# Altium integrated library Gamebuino.IntLib: 22 symbols
Pins are listed as number, name and electrical type; pins without a type are passive.

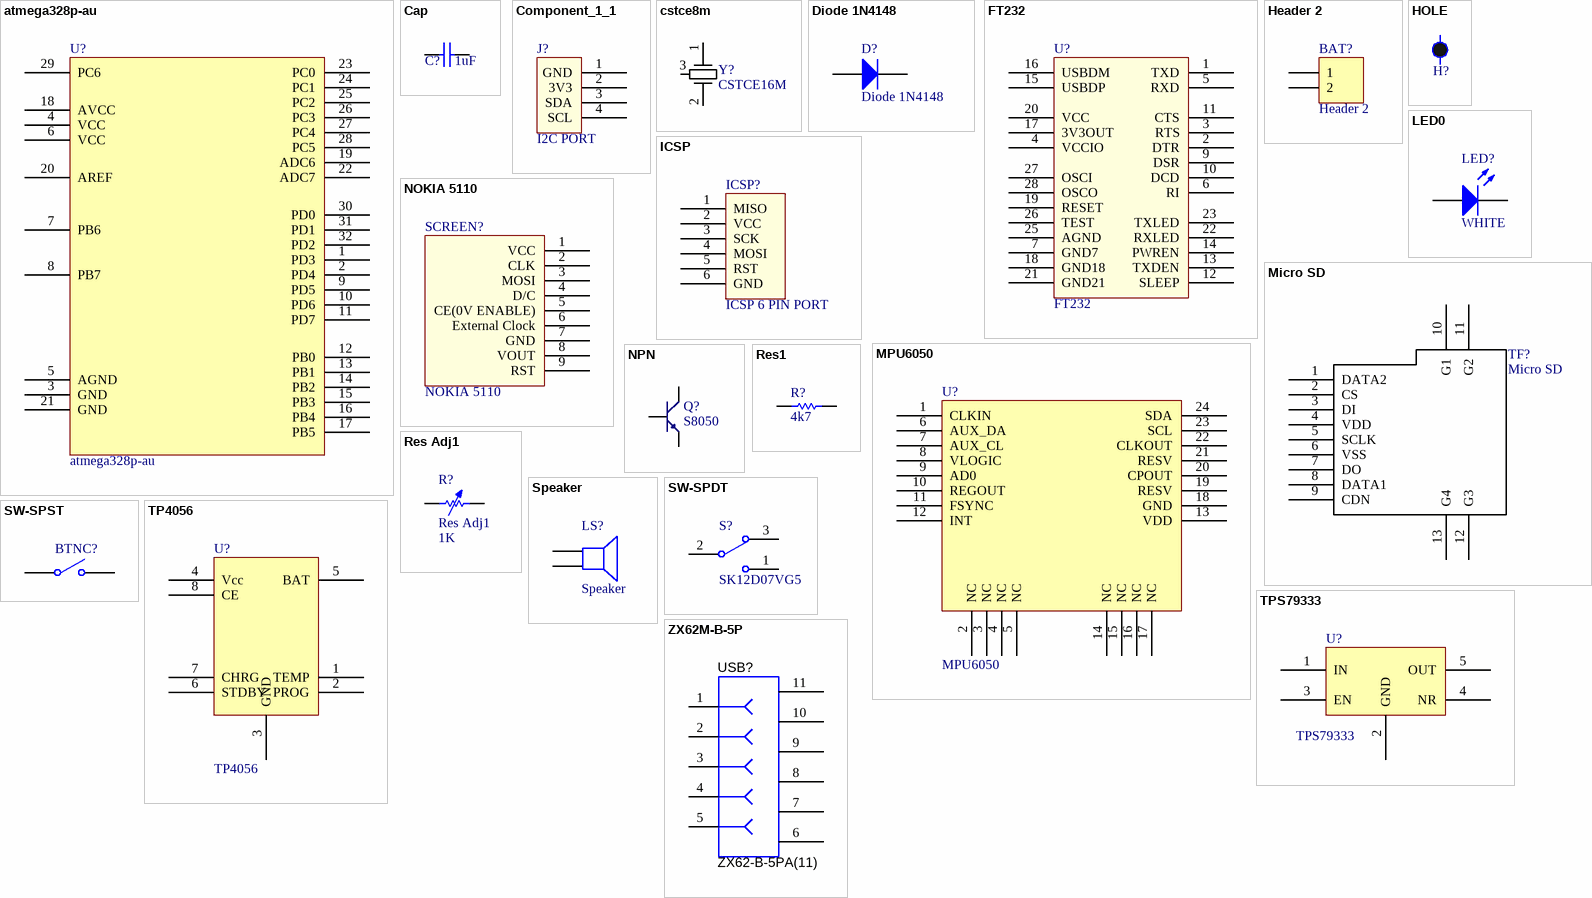
[diagram p0: symbols atmega328p-au to ZX62M-B-5P]

## atmega328p-au
designator U?
footprint TQFP-32N-1
pins: 1 PD3, 2 PD4, 3 GND, 4 VCC, 5 AGND, 6 VCC, 7 PB6, 8 PB7, 9 PD5, 10 PD6, 11 PD7, 12 PB0, 13 PB1, 14 PB2, 15 PB3, 16 PB4, 17 PB5, 18 AVCC, 19 ADC6, 20 AREF, 21 GND, 22 ADC7, 23 PC0, 24 PC1, 25 PC2, 26 PC3, 27 PC4, 28 PC5, 29 PC6, 30 PD0, 31 PD1, 32 PD2

## Cap
designator C?  value 1uF  (hidden comment: Cap)
Capacitor; Published: 8-Jun-2000; LatestRevisionDate: 17-Jul-2002; LatestRevisionNote: Re-released for DXP Platform.; PackageReference: RAD-0.3; Publisher: Altium Limited; PackageDescription: Radial Cap, Thru-Hole; 2 Leads; 0.3 in Pin Spacing
footprint 6-0805_N (Chip Resistor, Body 2.0x1.2mm, IPC Medium Density)
simulation model CAP (Capacitor)
signal-integrity model Cap
pins: 1, 2

## Component_1_1
designator J?, comment I2C PORT
footprint CONN4_/wTestPoint
pins: 1 GND, 2 3V3, 3 SDA, 4 SCL

## cstce8m
designator Y?, comment CSTCE16M
footprint cstce8m
pins: 1, 2, 3

## Diode 1N4148
designator D?
High Conductance Fast Diode; Published: 8-Jun-2000; LatestRevisionDate: 17-Jul-2002; LatestRevisionNote: Re-released for DXP Platform.; DatasheetVersion: 1997; PackageReference: DO-35; Publisher: Altium Limited; PackageDescription: Diode, Axial; Body 3.8 x 1.9 mm (LxDia. max), Lead Dia. 0.53 mm (max); Code_JEDEC: DO-204-AH; ComponentLink1Description: Manufacturer Link; ComponentLink1URL: http://www.fairchildsemi.com/; ComponentLink2Description: Datasheet; ComponentLink2URL: http://www.fairchildsemi.com/ds/1N%2F1N4148.pdf
footprint 12Z-2010 (Chip Resistor, Body 5.0x2.5mm, IPC High Density)
simulation model 1N4148 (DIODE)
signal-integrity model 1N4148
pins: 1 A, 2 K

## FT232
designator U?
footprint LC-SSOP-28_208mil
pins: 1 TXD, 2 DTR, 3 RTS, 4 VCCIO, 5 RXD, 6 RI, 7 GND7, 9 DSR, 10 DCD, 11 CTS, 12 SLEEP, 13 TXDEN, 14 PWREN, 15 USBDP, 16 USBDM, 17 3V3OUT, 18 GND18, 19 RESET, 20 VCC, 21 GND21, 22 RXLED, 23 TXLED, 25 AGND, 26 TEST, 27 OSCI, 28 OSCO

## Header 2
designator BAT?
Header, 2-Pin; LatestRevisionDate: 17-Jul-2002; LatestRevisionNote: Re-released for DXP Platform.; Publisher: Altium Limited
footprint BAT
signal-integrity model Connector
pins: 1, 2

## HOLE
designator H?  (value not drawn)
footprint HOLE_2.0
footprint HOLE_2.5
footprint HOLE_3.0
footprint HOLE_3.5
footprint HOLE_4.0
footprint HOLE_150mil

## ICSP
designator ICSP?, comment ICSP 6 PIN PORT
footprint CONN6-1mm
pins: 1 MISO, 2 VCC, 3 SCK, 4 MOSI, 5 RST, 6 GND

## LED0
designator LED?, comment WHITE
Typical INFRARED GaAs LED; Published: 8-Jun-2000; LatestRevisionDate: 08-Jul-2005; LatestRevisionNote: Mech Layer 1 removed.; PackageReference: LED-0; Publisher: Altium Limited; PackageDescription: LED; 2 Leads
footprint 6-0805_N (Chip Resistor, Body 2.0x1.2mm, IPC Medium Density)
simulation model LED0 (Diode)
pins: 1 A, 2 K

## Micro SD
designator TF?
footprint tf
pins: 1 DATA2, 2 CS, 3 DI, 4 VDD, 5 SCLK, 6 VSS, 7 DO, 8 DATA1, 9 CDN, 10 G1, 11 G2, 12 G3, 13 G4

## MPU6050
designator U?
footprint QFN-24A
pins: 1 CLKIN, 2 NC, 3 NC, 4 NC, 5 NC, 6 AUX_DA, 7 AUX_CL, 8 VLOGIC, 9 AD0, 10 REGOUT, 11 FSYNC, 12 INT, 13 VDD, 14 NC, 15 NC, 16 NC, 17 NC, 18 GND, 19 RESV, 20 CPOUT, 21 RESV, 22 CLKOUT, 23 SCL, 24 SDA

## NOKIA 5110
designator SCREEN?
footprint 5110_bare
pins: 1 VCC, 2 CLK, 3 MOSI, 4 D/C, 5 CE(0V ENABLE), 6 External Clock, 7 GND, 8 VOUT, 9 RST

## NPN
designator Q?, comment S8050
8050/BCW846/BCW847
footprint SOT-23R
footprint NPN
pins: 1 E, 2 B, 3 C

## Res1
designator R?  value 4k7  (hidden comment: Res1)
Resistor; Published: 8-Jun-2000; LatestRevisionDate: 17-Jul-2002; LatestRevisionNote: Re-released for DXP Platform.; PackageReference: AXIAL-0.3; Publisher: Altium Limited; PackageDescription: Axial Device, Thru-Hole; 2 Leads; 0.3 in Pin Spacing
footprint 6-0805_N (Chip Resistor, Body 2.0x1.2mm, IPC Medium Density)
simulation model RESISTOR (Resistor)
signal-integrity model Res
pins: 1, 2

## Res Adj1
designator R?  value 1K
Variable Resistor; Set Position: 0.5; Published: 8-Jun-2000; LatestRevisionDate: 17-Jul-2002; LatestRevisionNote: Re-released for DXP Platform.; PackageReference: AXIAL-0.7; Publisher: Altium Limited; PackageDescription: Axial Device, Thru-Hole; 2 Leads; 0.7 in Pin Spacing
footprint light_sensor
simulation model VRES (Variable Resistor)
signal-integrity model Res Adj
pins: 1, 2

## Speaker
designator LS?
Loudspeaker; Published: 24-Mar-1999; LatestRevisionDate: 17-Jul-2002; LatestRevisionNote: Re-released for DXP Platform.; PackageReference: PIN2; Publisher: Altium Limited
footprint Speaker
pins: 1, 2

## SW-SPDT
designator S?, comment SK12D07VG5
SPDT Subminiature Toggle Switch, Right Angle Mounting, Vertical Actuation; Published: 24-Mar-1999; LatestRevisionDate: 17-Dec-2003; LatestRevisionNote: Schematic revised, PCB Footprint replaced.; DatasheetVersion: 05-Dec-2000; PackageReference: TL36WW15050; Publisher: Altium Limited; PackageDescription: Switch; 4 Leads; ComponentLink1Description: Manufacturer Link; ComponentLink1URL: http://www.apem.com
footprint DIP10
pins: 1, 2, 3

## SW-SPST
designator BTNC?  (value not drawn)
Single-Pole, Single-Throw Switch; Published: 24-Mar-1999; LatestRevisionDate: 17-Jul-2002; LatestRevisionNote: Re-released for DXP Platform.; PackageReference: SPST-2; Publisher: Altium Limited; PackageDescription: Switch; 2 Leads
footprint KEY5
pins: 1 COMMON, 2 NO

## TP4056
designator U?
footprint SOP-PP-8
pins: 1 TEMP, 2 PROG, 3 GND, 4 Vcc, 5 BAT, 6 STDBY, 7 CHRG, 8 CE

## TPS79333
designator U?
footprint SOT-23-5 (SOT23, 5-Leads, Body 2.90x2.80mm, Pitch 0.95mm, IPC Medium Density)
pins: 1 IN, 2 GND, 3 EN, 4 NR, 5 OUT

## ZX62M-B-5P
designator USB?, comment ZX62-B-5PA(11)
Connector, micro USB Type B, Receptacle, R/A, SMD; Manufacturer: Hirose Electric Co. Ltd.; SymbolCreator: a0411947; U/M: EA; DNP: false; SymbolVersion: 2013-04-05; PartNumber: ZX62-B-5PA(11); PackageReference: Micro USB-B receptacle; CompType: Receptacle; RoHS: Y; MountType: SMT; ComponentLink1Description: Datasheet Link; ComponentLink1URL: http://www.hirose.co.jp/cataloge_hp/e24200011.pdf; Publisher: Texas Instruments; LatestRevisionDate: 2013-11-19; Supplier 1: Digi-Key; Supplier Part Number 1: H11634CT-ND; Supplier 2: Mouser; Supplier Part Number 2: 798-ZX62-B-5PA11; Supplier 3: Farnell; Supplier Part Number 3: 1645325
footprint CONN_USB_micro_ZX62-B-5PA
pins: 1, 2, 3, 4, 5, 6, 7, 8, 9, 10, 11